# Altium footprint library SnapEDApcb.PcbLib: 1 footprints
Each footprint in its own frame and in the unit in brackets; x right, y up, seen from the top. Pads: shape width x height; smd on the part's side, far side on the other; paste and mask are expansions set on the pad; w line width, h text height; cw(c..) or ccw(c..) is an arc to the next point about the centre after c.
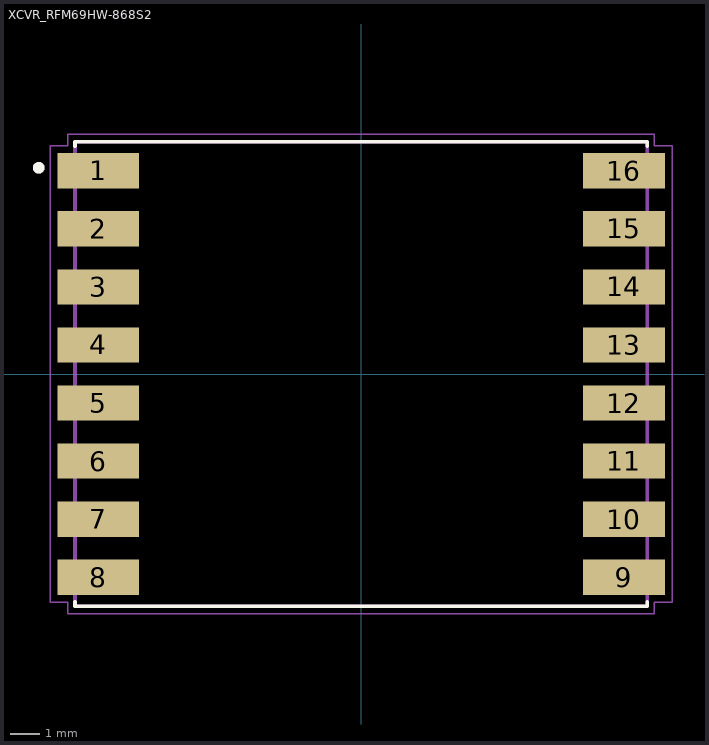
[diagram p0: the footprint, top view; thin cyan lines are the x and y axes]

## XCVR_RFM69HW-868S2 [mm]
pads (16):
  rect 2.81x1.21 smd: 1(-9.05,7) 2(-9.05,5) 3(-9.05,3) 4(-9.05,1) 5(-9.05,-1) 6(-9.05,-3) 7(-9.05,-5) 8(-9.05,-7) 9(9.05,-7) 10(9.05,-5) 11(9.05,-3) 12(9.05,-1) 13(9.05,1) 14(9.05,3) 15(9.05,5) 16(9.05,7)
Top Overlay:
  circle w0.2: c-11.1,7.1 r0.1
  lines w0.127: -9.85,-7.85 -9.85,-8 9.85,-8 9.85,-7.85 ; -9.85,7.85 -9.85,8 9.85,8 9.85,7.85
Mechanical 13:
  circle w0.2: c-11.1,7.1 r0.1
  lines w0.127: -9.85,-8 9.85,-8 9.85,8 -9.85,8 -9.85,-8
Mechanical 15:
  lines w0.05: -10.71,-7.86 -10.71,7.86 -10.1,7.86 -10.1,8.25 10.1,8.25 10.1,7.86 10.71,7.86 10.71,-7.86 10.1,-7.86 10.1,-8.25 -10.1,-8.25 -10.1,-7.86 -10.71,-7.86